# EAGLE library part RFM22B (library ds_wireless)
RFM22B/23B are highly integrated, low cost,433/470/868/915MHZ wireless ISM transceivers module. The low receive sensitivity(–121dBm) coupled with industry leading +20dBm output power ensures extended range and improved link performance. Built-in antenna diversity and support for frequency hopping can be used to further extend range and enhance performance.
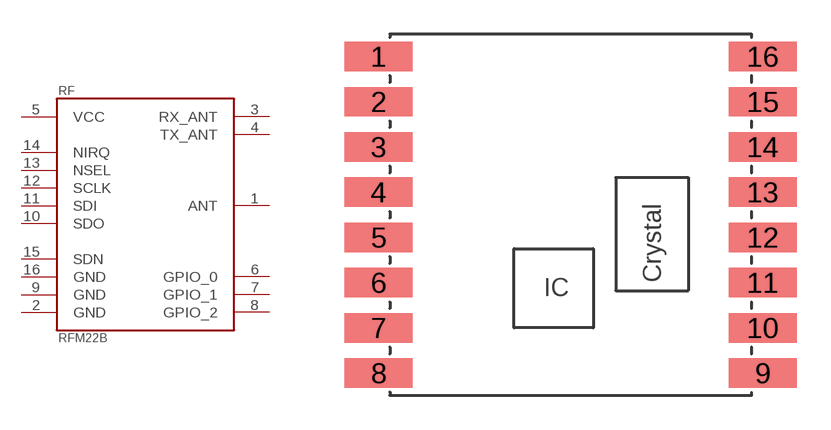
[diagram p0: symbol with the pads of RFM22B; footprint RFM22B]

Designator prefix RF

## RFM22B  [RFM22B]
1  ANT
2  GND  pwr
3  RX_ANT  in
4  TX_ANT  in
5  VCC
6  GPIO_0
7  GPIO_1
8  GPIO_2
9  GND  pwr
10  SDO  out
11  SDI  in
12  SCLK  in
13  NSEL  in
14  NIRQ  out
15  SDN  in
16  GND  pwr

## Footprint RFM22B (pad centres in mm)
smd 3 x 1.3: 1 -8.417,6.896; 2 -8.417,4.896; 3 -8.417,2.896; 4 -8.417,0.896; 5 -8.417,-1.104; 6 -8.417,-3.104; 7 -8.417,-5.104; 8 -8.417,-7.104; 9 8.583,-7.104; 10 8.583,-5.104; 11 8.583,-3.104; 12 8.583,-1.104; 13 8.583,0.896; 14 8.583,2.896; 15 8.583,4.896; 16 8.583,6.896